# Altium footprint library TSW-104-07-G-D.PcbLib: 1 footprints
Each footprint in its own frame and in the unit in brackets; x right, y up, seen from the top. Pads: shape width x height; smd on the part's side, far side on the other; paste and mask are expansions set on the pad; w line width, h text height; cw(c..) or ccw(c..) is an arc to the next point about the centre after c.
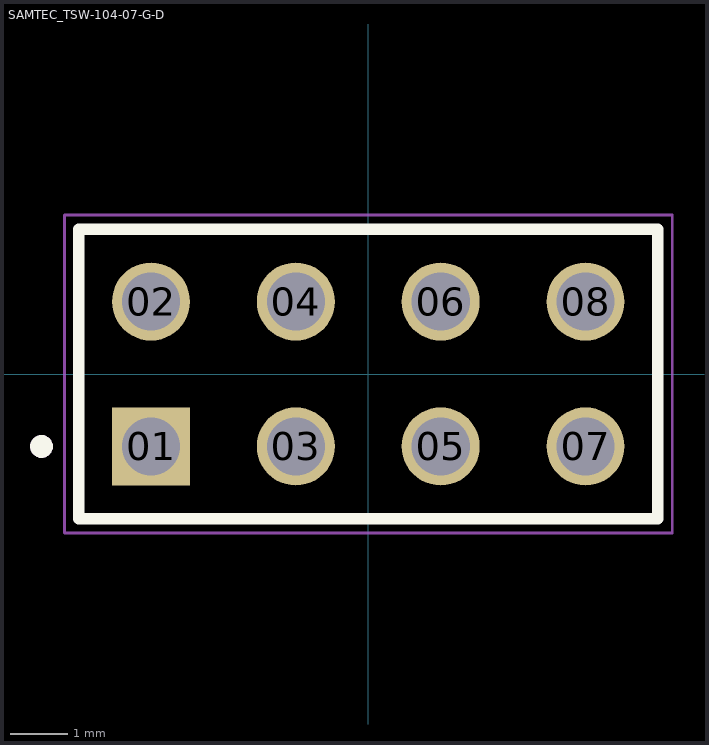
[diagram p0: the footprint, top view; thin cyan lines are the x and y axes]

## SAMTEC_TSW-104-07-G-D [mm]
pads (8):
  rect 1.37x1.37 hole 1.02: 01(-3.81,-1.27)
  round 1.37 hole 1.02: 02(-3.81,1.27) 03(-1.27,-1.27) 04(-1.27,1.27) 05(1.27,-1.27) 06(1.27,1.27) 07(3.81,-1.27) 08(3.81,1.27)
Top Overlay:
  circle w0.2: c-5.73,-1.27 r0.1
  lines w0.2: -5.08,-2.54 5.08,-2.54 5.08,2.54 -5.08,2.54 -5.08,-2.54
Mechanical 13:
  circle w0.2: c-5.73,-1.27 r0.1
  lines w0.1: -5.08,-2.54 -5.08,2.54 ; -5.08,-2.54 5.08,-2.54 ; -5.08,-2.54 -5.08,2.54 ; -5.08,2.54 5.08,2.54 ; -5.08,2.54 5.08,2.54 ; 5.08,-2.54 5.08,2.54 ; 5.08,-2.54 5.08,2.54
Mechanical 15:
  lines w0.05: -5.33,-2.79 5.33,-2.79 5.33,2.79 -5.33,2.79 -5.33,-2.79